# Altium schematic symbol library SCH - POWER - SWITCHMODE - TI TPS5130-Q1_PT_48.SchLib: 1 symbol
Pins are listed as number, name and electrical type; pins without a type are passive.

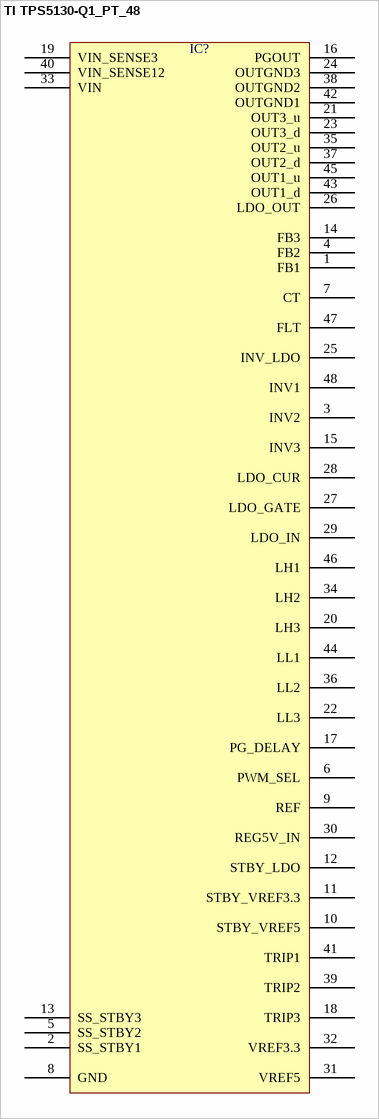
[diagram p0: symbol TI TPS5130-Q1_PT_48]

## TI TPS5130-Q1_PT_48
designator IC?  (value not drawn)
pins: 1 FB1, 2 SS_STBY1, 3 INV2, 4 FB2, 5 SS_STBY2, 6 PWM_SEL, 7 CT, 8 GND, 9 REF, 10 STBY_VREF5, 11 STBY_VREF3.3, 12 STBY_LDO, 13 SS_STBY3, 14 FB3, 15 INV3, 16 PGOUT, 17 PG_DELAY, 18 TRIP3, 19 VIN_SENSE3, 20 LH3, 21 OUT3_u, 22 LL3, 23 OUT3_d, 24 OUTGND3, 25 INV_LDO, 26 LDO_OUT, 27 LDO_GATE, 28 LDO_CUR, 29 LDO_IN, 30 REG5V_IN, 31 VREF5, 32 VREF3.3, 33 VIN, 34 LH2, 35 OUT2_u, 36 LL2, 37 OUT2_d, 38 OUTGND2, 39 TRIP2, 40 VIN_SENSE12, 41 TRIP1, 42 OUTGND1, 43 OUT1_d, 44 LL1, 45 OUT1_u, 46 LH1, 47 FLT, 48 INV1